# EAGLE library part 74LVCH2T45DC,125 (library pimoroni-ics)
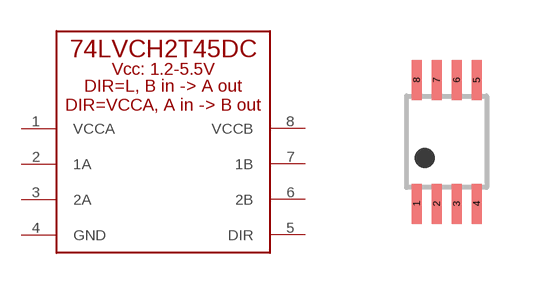
[diagram p119: symbol with the pads of VSSOP-8; footprint VSSOP-8]

Designator prefix U

## 74LVCH2T45DC,125  [VSSOP-8]
1  VCCA
2  1A
3  2A
4  GND
5  DIR
6  2B
7  1B
8  VCCB

## Footprint VSSOP-8 (pad centres in mm)
smd 0.25 x 1: 1 -0.75,-1.55; 2 -0.25,-1.55; 3 0.25,-1.55; 4 0.75,-1.55; 5 0.75,1.55; 6 0.25,1.55; 7 -0.25,1.55; 8 -0.75,1.55